# EAGLE library part STM32BREAKOUT (library STM32F0)
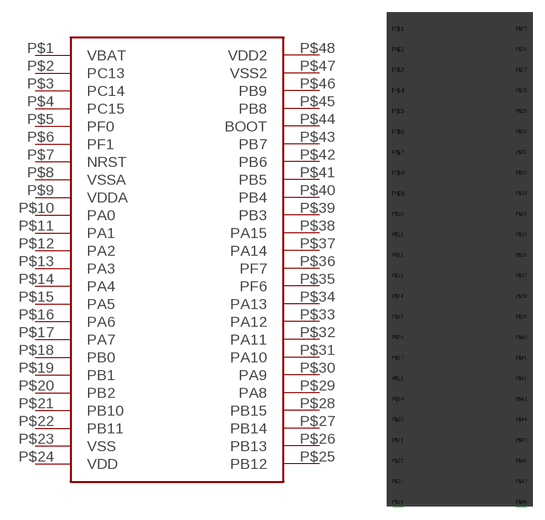
[diagram p1: symbol with the pads of STM32F0; footprint STM32F0]

Designator prefix -

## STM32BREAKOUT  [STM32F0]
P$1  VBAT
P$2  PC13
P$3  PC14
P$4  PC15
P$5  PF0
P$6  PF1
P$7  NRST
P$8  VSSA
P$9  VDDA
P$10  PA0
P$11  PA1
P$12  PA2
P$13  PA3
P$14  PA4
P$15  PA5
P$16  PA6
P$17  PA7
P$18  PB0
P$19  PB1
P$20  PB2
P$21  PB10
P$22  PB11
P$23  VSS
P$24  VDD
P$25  PB12
P$26  PB13
P$27  PB14
P$28  PB15
P$29  PA8
P$30  PA9
P$31  PA10
P$32  PA11
P$33  PA12
P$34  PA13
P$35  PF6
P$36  PF7
P$37  PA14
P$38  PA15
P$39  PB3
P$40  PB4
P$41  PB5
P$42  PB6
P$43  PB7
P$44  BOOT
P$45  PB8
P$46  PB9
P$47  VSS2
P$48  VDD2

## Footprint STM32F0 (pad centres in mm)
drill 0.8 square: P$1 -7.62,27.94; P$2 -7.62,25.4; P$3 -7.62,22.86; P$4 -7.62,20.32; P$5 -7.62,17.78; P$6 -7.62,15.24; P$7 -7.62,12.7; P$8 -7.62,10.16; P$9 -7.62,7.62; P$10 -7.62,5.08; P$11 -7.62,2.54; P$12 -7.62,0; P$13 -7.62,-2.54; P$14 -7.62,-5.08; P$15 -7.62,-7.62; P$16 -7.62,-10.16; P$17 -7.62,-12.7; P$18 -7.62,-15.24; P$19 -7.62,-17.78; P$20 -7.62,-20.32; P$21 -7.62,-22.86; P$22 -7.62,-25.4; P$23 -7.62,-27.94; P$24 -7.62,-30.48; P$25 7.62,27.94; P$26 7.62,25.4; P$27 7.62,22.86; P$28 7.62,20.32; P$29 7.62,17.78; P$30 7.62,15.24; P$31 7.62,12.7; P$32 7.62,10.16; P$33 7.62,7.62; P$34 7.62,5.08; P$35 7.62,2.54; P$36 7.62,0; P$37 7.62,-2.54; P$38 7.62,-5.08; P$39 7.62,-7.62; P$40 7.62,-10.16; P$41 7.62,-12.7; P$42 7.62,-15.24; P$43 7.62,-17.78; P$44 7.62,-20.32; P$45 7.62,-22.86; P$46 7.62,-25.4; P$47 7.62,-27.94; P$48 7.62,-30.48